# EAGLE library part HEADER-14 (library monome-inc)
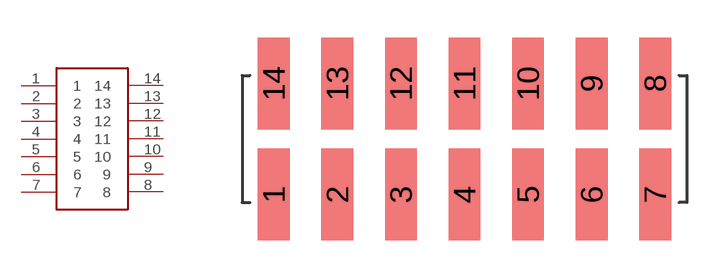
[diagram p15: symbol with the pads of HEADER-SMD14; footprint HEADER-SMD14]

Designator prefix -

## HEADER-14  [HEADER-SMD14]
1  1
2  2
3  3
4  4
5  5
6  6
7  7
8  8
9  9
10  10
11  11
12  12
13  13
14  14

## Footprint HEADER-SMD14 (pad centres in mm)
smd 1.27 x 3.683: 1 -7.62,-2.223; 2 -5.08,-2.223; 3 -2.54,-2.223; 4 0,-2.223; 5 2.54,-2.223; 6 5.08,-2.223; 7 7.62,-2.223; 8 7.62,2.223; 9 5.08,2.223; 10 2.54,2.223; 11 0,2.223; 12 -2.54,2.223; 13 -5.08,2.223; 14 -7.62,2.223